# Altium schematic symbol library uclamp3301p.SchLib: 1 symbol
Pins are listed as number, name and electrical type; pins without a type are passive.

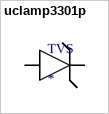
[diagram p0: symbol uclamp3301p]

## uclamp3301p
designator TVS
Samtech ESD TVS diode SLP1006P2
footprint UCLAMP3301P_TCT (TVS ESD and CDE protection)
pins: 1 +, 2 -